# Altium footprint library QFN14.PcbLib: 1 footprints
Each footprint in its own frame and in the unit in brackets; x right, y up, seen from the top. Pads: shape width x height; smd on the part's side, far side on the other; paste and mask are expansions set on the pad; w line width, h text height; cw(c..) or ccw(c..) is an arc to the next point about the centre after c.
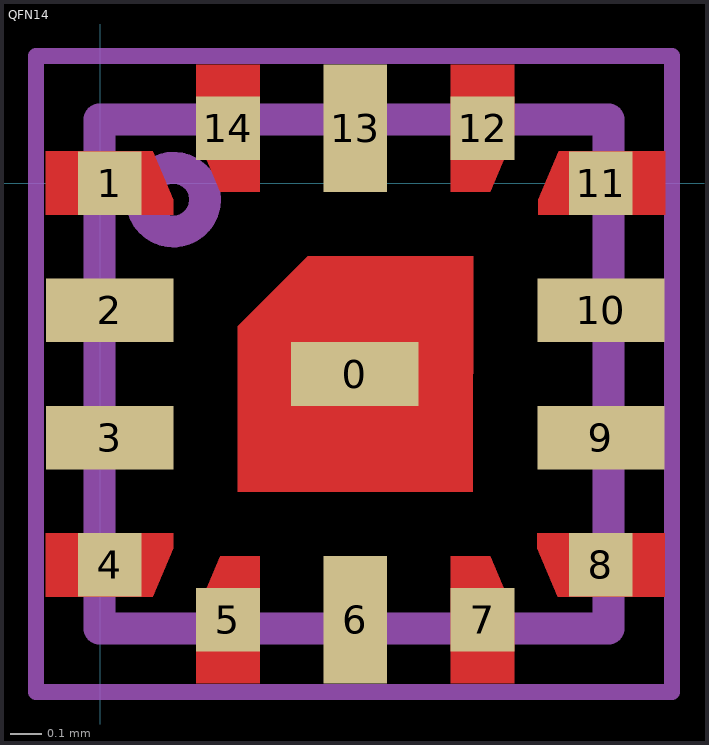
[diagram p0: the footprint, top view; thin cyan lines are the x and y axes]

## QFN14 [mm]
pads (15):
  rect 0.4x0.2 smd mask+0.025: 0(0.8,-0.6) 2(0.03,-0.4) 3(0.03,-0.8) 9(1.574,-0.8) 10(1.574,-0.4)
  rrect0% 0.2x0.2 smd mask+0.025: 1(0.03,0) 4(0.03,-1.2) 5(0.402,-1.372) 7(1.202,-1.372) 8(1.574,-1.2) 11(1.574,0) 12(1.202,0.172) 14(0.402,0.172)
  rect 0.2x0.4 smd mask+0.025: 6(0.802,-1.372) 13(0.802,0.172)
Top Layer:
  region: 0.23,-1.148 0.166,-1.3 -0.17,-1.3 -0.17,-1.1 0.23,-1.1
  region: 1.302,-1.352 1.227,-1.172 1.102,-1.172 1.102,-1.572 1.302,-1.572
  region: 0.302,-1.352 0.377,-1.172 0.502,-1.172 0.502,-1.572 0.302,-1.572
  region: 0.302,0.152 0.377,-0.028 0.502,-0.028 0.502,0.372 0.302,0.372
  region: 1.172,-0.23 0.652,-0.23 0.432,-0.45 0.432,-0.97 1.172,-0.97
  region: 1.172,-0.97 1.172,-0.23 0.652,-0.23 0.432,-0.45 0.432,-0.97
  region: 0.23,-0.052 0.166,0.1 -0.17,0.1 -0.17,-0.1 0.23,-0.1
  region: 1.374,-1.148 1.438,-1.3 1.774,-1.3 1.774,-1.1 1.374,-1.1
  region: 1.377,-0.052 1.441,0.1 1.777,0.1 1.777,-0.1 1.377,-0.1
  region: 1.302,0.152 1.227,-0.028 1.102,-0.028 1.102,0.372 1.302,0.372
TopAssy:
  circle w0.1: c0.23,-0.052 r0.1
  lines w0.1: -0.002,-1.4 1.598,-1.4 1.598,0.2 -0.002,0.2 -0.002,-1.4
Mechanical 15:
  lines w0.05: -0.202,-1.6 -0.202,0.4 1.798,0.4 1.798,-1.6 -0.202,-1.6
Mechanical 16:
  lines w0.05: 0.55,-0.6 1.05,-0.6 ; 0.8,-0.85 0.8,-0.35
3D body: height 1.15, standoff 0.85, extent 0.648,-0.748 0.939,-0.452
3D body: height 0.48, standoff 0.05, extent 0.074,-0.204 0.374,0.096
3D body: height 0.47, standoff 0.02, extent -0.002,-1.4 1.598,0.2